# EAGLE library part MIS-019-01-H-D (library Sombeck_lib)
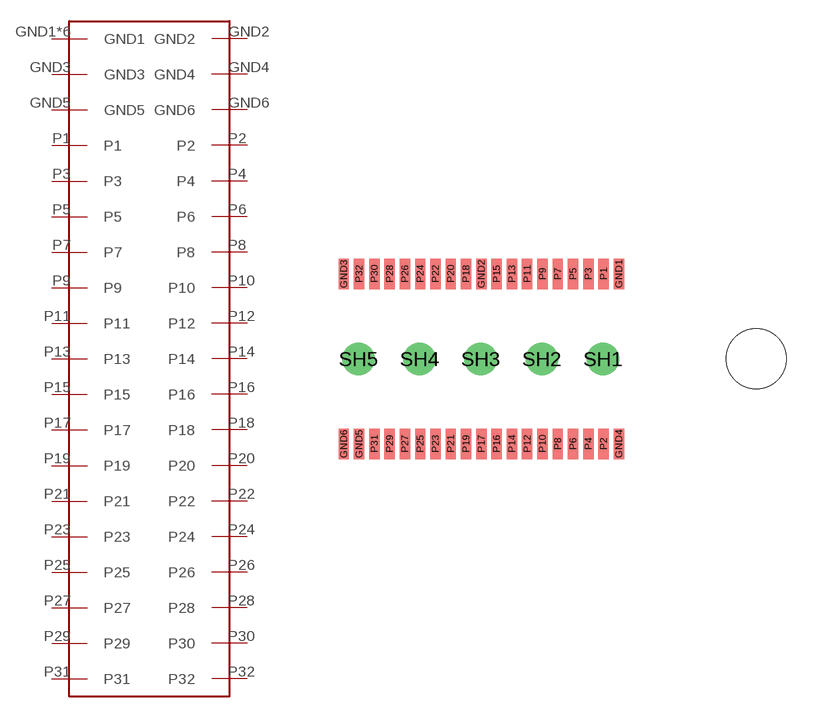
[diagram p1: symbol with the pads of MIS-019-01-H-D; footprint MIS-019-01-H-D]

Designator prefix -

## MIS-019-01-H-D  [MIS-019-01-H-D]
GND1  GND1
GND2  GND2
GND3  GND3
GND4  GND4
GND5  GND5
GND6  GND6
P1  P1
P2  P2
P3  P3
P4  P4
P5  P5
P6  P6
P7  P7
P8  P8
P9  P9
P10  P10
P11  P11
P12  P12
P13  P13
P14  P14
P15  P15
P16  P16
P17  P17
P18  P18
P19  P19
P20  P20
P21  P21
P22  P22
P23  P23
P24  P24
P25  P25
P26  P26
P27  P27
P28  P28
P29  P29
P30  P30
P31  P31
P32  P32
SH1  GND1
SH2  GND1
SH3  GND1
SH4  GND1
SH5  GND1

## Footprint MIS-019-01-H-D (pad centres in mm)
smd 0.432 x 1.27: GND1 0,3.531; GND2 -5.715,3.531; GND3 -11.43,3.531; GND4 0,-3.531; GND5 -10.795,-3.531; GND6 -11.43,-3.531; P1 -0.635,3.531; P2 -0.635,-3.531; P3 -1.27,3.531; P4 -1.27,-3.531; P5 -1.905,3.531; P6 -1.905,-3.531; P7 -2.54,3.531; P8 -2.54,-3.531; P9 -3.175,3.531; P10 -3.175,-3.531; P11 -3.81,3.531; P12 -3.81,-3.531; P13 -4.445,3.531; P14 -4.445,-3.531; P15 -5.08,3.531; P16 -5.08,-3.531; P17 -5.715,-3.531; P18 -6.35,3.531; P19 -6.35,-3.531; P20 -6.985,3.531; P21 -6.985,-3.531; P22 -7.62,3.531; P23 -7.62,-3.531; P24 -8.255,3.531; P25 -8.255,-3.531; P26 -8.89,3.531; P27 -8.89,-3.531; P28 -9.525,3.531; P29 -9.525,-3.531; P30 -10.16,3.531; P31 -10.16,-3.531; P32 -10.795,3.531
drill 0.85 pad 1.219: SH1 -0.66,0; SH2 -3.2,0; SH3 -5.74,0; SH4 -8.28,0; SH5 -10.82,0
hole 2.489 at 5.715,0